# EAGLE library part 418217170910 (library Wurth_Elektronik_Electromechanic_Switchs_rev15b)
WS-RA 2.54 mm right angled compact THT Dip Switch with flat actuator, 10 Pole
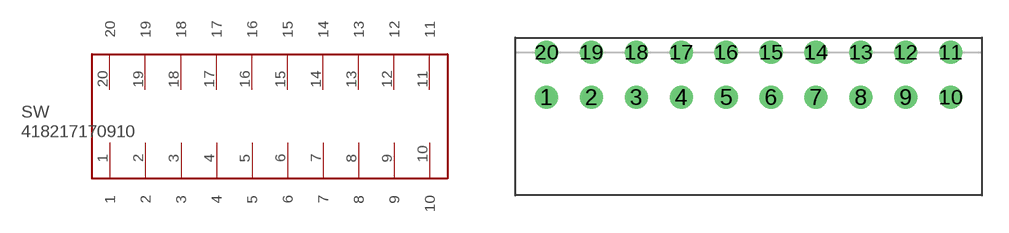
[diagram p90: symbol with the pads of 418217170910; footprint 418217170910]

Designator prefix SW

## 418217170910  [418217170910]
1  1
2  2
3  3
4  4
5  5
6  6
7  7
8  8
9  9
10  10
11  11
12  12
13  13
14  14
15  15
16  16
17  17
18  18
19  19
20  20

## Footprint 418217170910 (pad centres in mm)
WS-RA 2.54 mm right angled compact THT Dip Switch with flat actuator, 10 Pole
drill 0.8: 1 0,-1.27; 2 2.54,-1.27; 3 5.08,-1.27; 4 7.62,-1.27; 5 10.16,-1.27; 6 12.7,-1.27; 7 15.24,-1.27; 8 17.78,-1.27; 9 20.32,-1.27; 10 22.86,-1.27; 11 22.86,1.27; 12 20.32,1.27; 13 17.78,1.27; 14 15.24,1.27; 15 12.7,1.27; 16 10.16,1.27; 17 7.62,1.27; 18 5.08,1.27; 19 2.54,1.27; 20 0,1.27